# Altium schematic symbol library Conn,Ribbon,10P,2.54mm.Schlib: 1 symbol
Pins are listed as number, name and electrical type; pins without a type are passive.

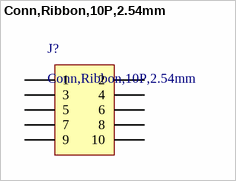
[diagram p0: symbol Conn,Ribbon,10P,2.54mm]

## Conn,Ribbon,10P,2.54mm
designator J?
Connector Header Through Hole 10 position 0.100" (2.54mm)
pins: 1, 2, 3, 4, 5, 6, 7, 8, 9, 10